# Altium schematic symbol library Inductor - Power.SchLib: 264 symbols (part 5 of 5)
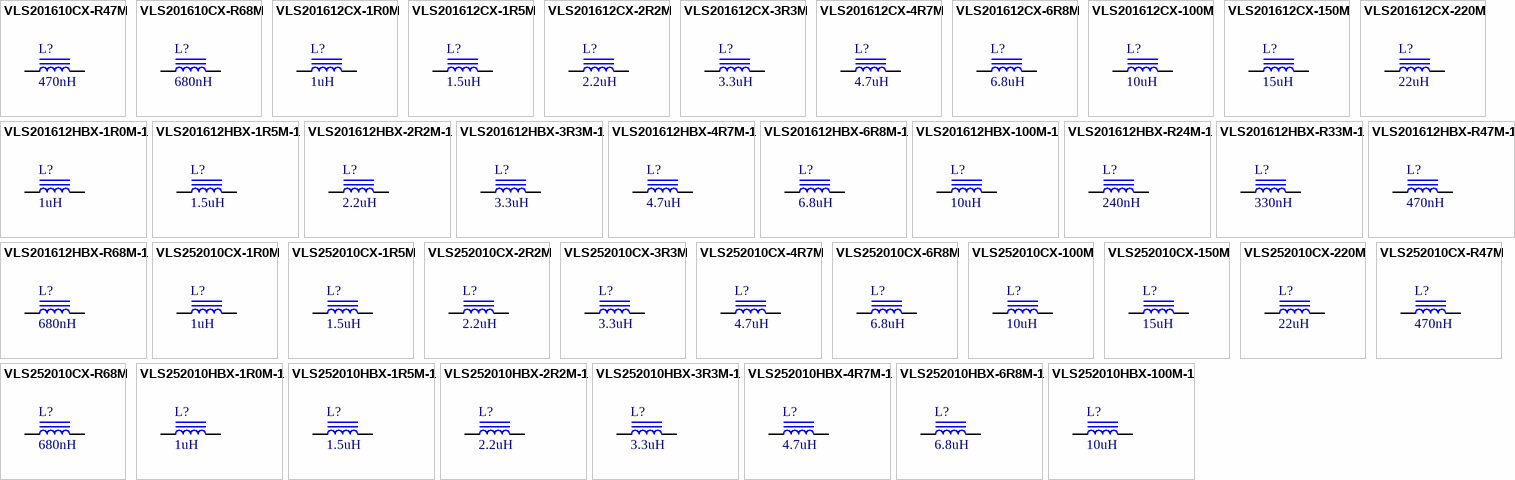
[diagram p10: symbols VLS201610CX-R47M to VLS252010HBX-100M-1]

## VLS252010HBX-4R7M-1
designator L?, comment 4.7uH
FIXED IND 4.7UH 1.4A 250 MOHM; Part Number: VLS252010HBX-4R7M-1; Manufacturer: TDK Corporation; Type: Wirewound; Tolerance: 20%; Shielding: Shielded; DC Resistance (DCR): 250 mOhm Max; Value: 4.7uH; PartId: 9544; Supplier 1: Digi-Key; Supplier Part Number 1: 445-173022-2-ND; ComponentLink1Description: Datasheet; ComponentLink1URL: https://product.tdk.com/info/en/catalog/datasheets/inductor_commercial_power_vls252010hbx-1_en.pdf; ComponentLink2Description: Digi-Key Listing; ComponentLink2URL: https://www.digikey.com/product-detail/en/VLS252010HBX-4R7M-1/445-173022-2-ND/5147060; Price: 0.2448; Device Package: 1008 (2520 Metric); Series: VLS-HBX-1; Inductance: 4.7uH; Current Rating: 1.4A; Q @ Freq: -; Frequency - Self Resonant: -; Operating Temperature: -40C ~ 105C
footprint TDK VLS252010HBX-1
pins: 1, 2

## VLS252010HBX-6R8M-1
designator L?, comment 6.8uH
FIXED IND 6.8UH 1.1A 406 MOHM; Part Number: VLS252010HBX-6R8M-1; Manufacturer: TDK Corporation; Type: Wirewound; Tolerance: 20%; Shielding: Shielded; DC Resistance (DCR): 406 mOhm Max; Value: 6.8uH; PartId: 9547; Supplier 1: Digi-Key; Supplier Part Number 1: 445-173023-2-ND; ComponentLink1Description: Datasheet; ComponentLink1URL: https://product.tdk.com/info/en/catalog/datasheets/inductor_commercial_power_vls252010hbx-1_en.pdf; ComponentLink2Description: Digi-Key Listing; ComponentLink2URL: https://www.digikey.com/product-detail/en/VLS252010HBX-6R8M-1/445-173023-2-ND/5147061; Price: 0.2448; Device Package: 1008 (2520 Metric); Series: VLS-HBX-1; Inductance: 6.8uH; Current Rating: 1.1A; Q @ Freq: -; Frequency - Self Resonant: -; Operating Temperature: -40C ~ 105C
footprint TDK VLS252010HBX-1
pins: 1, 2

## VLS252010HBX-100M-1
designator L?, comment 10uH
FIXED IND 10UH 950MA 552 MOHM; Part Number: VLS252010HBX-100M-1; Manufacturer: TDK Corporation; Type: Wirewound; Tolerance: 20%; Shielding: Shielded; DC Resistance (DCR): 552 mOhm Max; Value: 10uH; PartId: 9552; Supplier 1: Digi-Key; Supplier Part Number 1: 445-173020-1-ND; ComponentLink1Description: Datasheet; ComponentLink1URL: https://product.tdk.com/info/en/catalog/datasheets/inductor_commercial_power_vls252010hbx-1_en.pdf; ComponentLink2Description: Digi-Key Listing; ComponentLink2URL: https://www.digikey.com/product-detail/en/VLS252010HBX-100M-1/445-173020-1-ND/5250939; Price: 0.65; Device Package: 1008 (2520 Metric); Series: VLS-HBX-1; Inductance: 10uH; Current Rating: 950mA; Q @ Freq: -; Frequency - Self Resonant: -; Operating Temperature: -40C ~ 105C
footprint TDK VLS252010HBX-1
pins: 1, 2

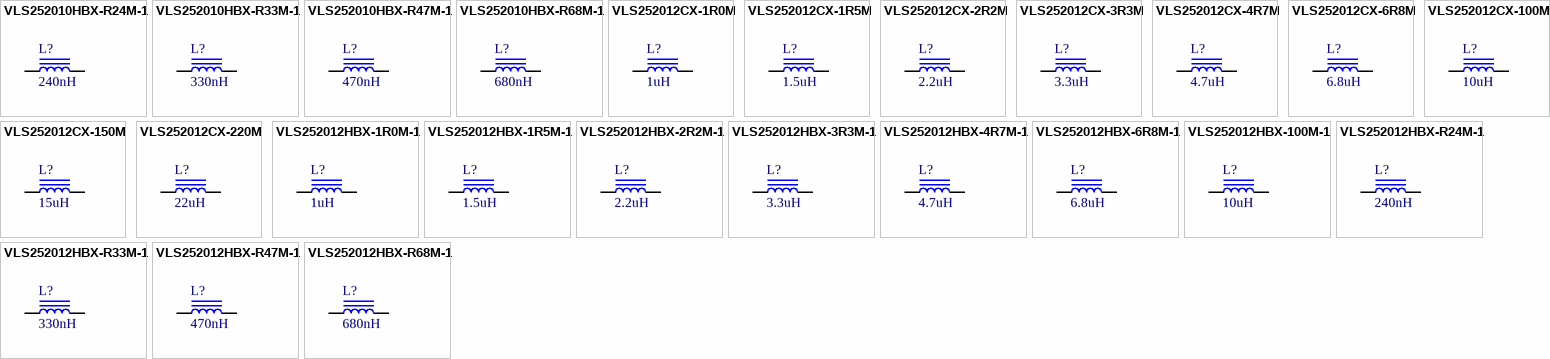
[diagram p6: symbols VLS252010HBX-R24M-1 to VLS252012HBX-R68M-1]

## VLS252010HBX-R24M-1
designator L?, comment 240nH
FIXED IND 240NH 3.91A 29 MOHM; Part Number: VLS252010HBX-R24M-1; Manufacturer: TDK Corporation; Type: Wirewound; Tolerance: 20%; Shielding: Shielded; DC Resistance (DCR): 29 mOhm Max; Value: 240nH; PartId: 9532; Supplier 1: Digi-Key; Supplier Part Number 1: 445-172400-2-ND; ComponentLink1Description: Datasheet; ComponentLink1URL: https://product.tdk.com/info/en/catalog/datasheets/inductor_commercial_power_vls252010hbx-1_en.pdf; ComponentLink2Description: Digi-Key Listing; ComponentLink2URL: https://www.digikey.com/product-detail/en/VLS252010HBX-R24M-1/445-172400-2-ND/4918067; Price: 0.2448; Device Package: 1008 (2520 Metric); Series: VLS-HBX-1; Inductance: 240nH; Current Rating: 3.91A; Q @ Freq: -; Frequency - Self Resonant: -; Operating Temperature: -40C ~ 105C
footprint TDK VLS252010HBX-1
pins: 1, 2

## VLS252010HBX-R33M-1
designator L?, comment 330nH
FIXED IND 330NH 3.74A 31 MOHM; Part Number: VLS252010HBX-R33M-1; Manufacturer: TDK Corporation; Type: Wirewound; Tolerance: 20%; Shielding: Shielded; DC Resistance (DCR): 31 mOhm Max; Value: 330nH; PartId: 9535; Supplier 1: Digi-Key; Supplier Part Number 1: 445-172401-2-ND; ComponentLink1Description: Datasheet; ComponentLink1URL: https://product.tdk.com/info/en/catalog/datasheets/inductor_commercial_power_vls252010hbx-1_en.pdf; ComponentLink2Description: Digi-Key Listing; ComponentLink2URL: https://www.digikey.com/product-detail/en/VLS252010HBX-R33M-1/445-172401-2-ND/4918068; Price: 0.2448; Device Package: 1008 (2520 Metric); Series: VLS-HBX-1; Inductance: 330nH; Current Rating: 3.74A; Q @ Freq: -; Frequency - Self Resonant: -; Operating Temperature: -40C ~ 105C
footprint TDK VLS252010HBX-1
pins: 1, 2

## VLS252010HBX-R47M-1
designator L?, comment 470nH
FIXED IND 470NH 3.32A 35 MOHM; Part Number: VLS252010HBX-R47M-1; Manufacturer: TDK Corporation; Type: Wirewound; Tolerance: 20%; Shielding: Shielded; DC Resistance (DCR): 35 mOhm Max; Value: 470nH; PartId: 9550; Supplier 1: Digi-Key; Supplier Part Number 1: 445-172402-1-ND; ComponentLink1Description: Datasheet; ComponentLink1URL: https://product.tdk.com/info/en/catalog/datasheets/inductor_commercial_power_vls252010hbx-1_en.pdf; ComponentLink2Description: Digi-Key Listing; ComponentLink2URL: https://www.digikey.com/product-detail/en/VLS252010HBX-R47M-1/445-172402-1-ND/4918086; Price: 0.65; Device Package: 1008 (2520 Metric); Series: VLS-HBX-1; Inductance: 470nH; Current Rating: 3.32A; Q @ Freq: -; Frequency - Self Resonant: -; Operating Temperature: -40C ~ 105C
footprint TDK VLS252010HBX-1
pins: 1, 2

## VLS252010HBX-R68M-1
designator L?, comment 680nH
FIXED IND 680NH 2.98A 48 MOHM; Part Number: VLS252010HBX-R68M-1; Manufacturer: TDK Corporation; Type: Wirewound; Tolerance: 20%; Shielding: Shielded; DC Resistance (DCR): 48 mOhm Max; Value: 680nH; PartId: 9538; Supplier 1: Digi-Key; Supplier Part Number 1: 445-172403-2-ND; ComponentLink1Description: Datasheet; ComponentLink1URL: https://product.tdk.com/info/en/catalog/datasheets/inductor_commercial_power_vls252010hbx-1_en.pdf; ComponentLink2Description: Digi-Key Listing; ComponentLink2URL: https://www.digikey.com/product-detail/en/VLS252010HBX-R68M-1/445-172403-2-ND/4918070; Price: 0.2448; Device Package: 1008 (2520 Metric); Series: VLS-HBX-1; Inductance: 680nH; Current Rating: 2.98A; Q @ Freq: -; Frequency - Self Resonant: -; Operating Temperature: -40C ~ 105C
footprint TDK VLS252010HBX-1
pins: 1, 2

## VLS252012CX-1R0M
designator L?, comment 1uH
FIXED IND 1UH 2.55A 62 MOHM SMD; Part Number: VLS252012CX-1R0M; Manufacturer: TDK Corporation; Type: Wirewound; Tolerance: 20%; Shielding: Shielded; DC Resistance (DCR): 62 mOhm Max; Value: 1uH; PartId: 9505; Supplier 1: Digi-Key; Supplier Part Number 1: 445-172980-2-ND; ComponentLink1Description: Datasheet; ComponentLink1URL: https://product.tdk.com/info/en/catalog/datasheets/inductor_commercial_power_vls252012cx_en.pdf; ComponentLink2Description: Digi-Key Listing; ComponentLink2URL: https://www.digikey.com/product-detail/en/VLS252012CX-1R0M/445-172980-2-ND/5169785; Price: 0.1785; Device Package: Nonstandard; Series: VLS-CX; Inductance: 1uH; Current Rating: 2.55A; Q @ Freq: -; Frequency - Self Resonant: -; Operating Temperature: -40C ~ 105C
footprint TDK VLS252012CX
pins: 1, 2

## VLS252012CX-1R5M
designator L?, comment 1.5uH
FIXED IND 1.5UH 2.3A 74 MOHM SMD; Part Number: VLS252012CX-1R5M; Manufacturer: TDK Corporation; Type: Wirewound; Tolerance: 20%; Shielding: Shielded; DC Resistance (DCR): 74 mOhm Max; Value: 1.5uH; PartId: 9508; Supplier 1: Digi-Key; Supplier Part Number 1: 445-172981-2-ND; ComponentLink1Description: Datasheet; ComponentLink1URL: https://product.tdk.com/info/en/catalog/datasheets/inductor_commercial_power_vls252012cx_en.pdf; ComponentLink2Description: Digi-Key Listing; ComponentLink2URL: https://www.digikey.com/product-detail/en/VLS252012CX-1R5M/445-172981-2-ND/5169786; Price: 0.1785; Device Package: Nonstandard; Series: VLS-CX; Inductance: 1.5uH; Current Rating: 2.3A; Q @ Freq: -; Frequency - Self Resonant: -; Operating Temperature: -40C ~ 105C
footprint TDK VLS252012CX
pins: 1, 2

## VLS252012CX-2R2M
designator L?, comment 2.2uH
FIXED IND 2.2UH 1.87A 96 MOHM; Part Number: VLS252012CX-2R2M; Manufacturer: TDK Corporation; Type: Wirewound; Tolerance: 20%; Shielding: Shielded; DC Resistance (DCR): 96 mOhm Max; Value: 2.2uH; PartId: 9463; Supplier 1: Digi-Key; Supplier Part Number 1: 445-172983-2-ND; ComponentLink1Description: Datasheet; ComponentLink1URL: https://product.tdk.com/info/en/catalog/datasheets/inductor_commercial_power_vls252012cx_en.pdf; ComponentLink2Description: Digi-Key Listing; ComponentLink2URL: https://www.digikey.com/product-detail/en/VLS252012CX-2R2M/445-172983-2-ND/5169788; Price: 0.1785; Device Package: Nonstandard; Series: VLS-CX; Inductance: 2.2uH; Current Rating: 1.87A; Q @ Freq: -; Frequency - Self Resonant: -; Operating Temperature: -40C ~ 105C
footprint TDK VLS252012CX
pins: 1, 2

## VLS252012CX-3R3M
designator L?, comment 3.3uH
FIXED IND 3.3UH 1.53A 137 MOHM; Part Number: VLS252012CX-3R3M; Manufacturer: TDK Corporation; Type: Wirewound; Tolerance: 20%; Shielding: Shielded; DC Resistance (DCR): 137 mOhm Max; Value: 3.3uH; PartId: 9517; Supplier 1: Digi-Key; Supplier Part Number 1: 445-172984-2-ND; ComponentLink1Description: Datasheet; ComponentLink1URL: https://product.tdk.com/info/en/catalog/datasheets/inductor_commercial_power_vls252012cx_en.pdf; ComponentLink2Description: Digi-Key Listing; ComponentLink2URL: https://www.digikey.com/product-detail/en/VLS252012CX-3R3M/445-172984-2-ND/5169789; Price: 0.1785; Device Package: Nonstandard; Series: VLS-CX; Inductance: 3.3uH; Current Rating: 1.53A; Q @ Freq: -; Frequency - Self Resonant: -; Operating Temperature: -40C ~ 105C
footprint TDK VLS252012CX
pins: 1, 2

## VLS252012CX-4R7M
designator L?, comment 4.7uH
FIXED IND 4.7UH 1.24A 210 MOHM; Part Number: VLS252012CX-4R7M; Manufacturer: TDK Corporation; Type: Wirewound; Tolerance: 20%; Shielding: Shielded; DC Resistance (DCR): 210 mOhm Max; Value: 4.7uH; PartId: 9469; Supplier 1: Digi-Key; Supplier Part Number 1: 445-172985-2-ND; ComponentLink1Description: Datasheet; ComponentLink1URL: https://product.tdk.com/info/en/catalog/datasheets/inductor_commercial_power_vls252012cx_en.pdf; ComponentLink2Description: Digi-Key Listing; ComponentLink2URL: https://www.digikey.com/product-detail/en/VLS252012CX-4R7M/445-172985-2-ND/5169790; Price: 0.1785; Device Package: Nonstandard; Series: VLS-CX; Inductance: 4.7uH; Current Rating: 1.24A; Q @ Freq: -; Frequency - Self Resonant: -; Operating Temperature: -40C ~ 105C
footprint TDK VLS252012CX
pins: 1, 2

## VLS252012CX-6R8M
designator L?, comment 6.8uH
FIXED IND 6.8UH 1.02A 330 MOHM; Part Number: VLS252012CX-6R8M; Manufacturer: TDK Corporation; Type: Wirewound; Tolerance: 20%; Shielding: Shielded; DC Resistance (DCR): 330 mOhm Max; Value: 6.8uH; PartId: 9514; Supplier 1: Digi-Key; Supplier Part Number 1: 445-172986-2-ND; ComponentLink1Description: Datasheet; ComponentLink1URL: https://product.tdk.com/info/en/catalog/datasheets/inductor_commercial_power_vls252012cx_en.pdf; ComponentLink2Description: Digi-Key Listing; ComponentLink2URL: https://www.digikey.com/product-detail/en/VLS252012CX-6R8M/445-172986-2-ND/5169791; Price: 0.1785; Device Package: Nonstandard; Series: VLS-CX; Inductance: 6.8uH; Current Rating: 1.02A; Q @ Freq: -; Frequency - Self Resonant: -; Operating Temperature: -40C ~ 105C
footprint TDK VLS252012CX
pins: 1, 2

## VLS252012CX-100M
designator L?, comment 10uH
FIXED IND 10UH 820MA 482 MOHM; Part Number: VLS252012CX-100M; Manufacturer: TDK Corporation; Type: Wirewound; Tolerance: 20%; Shielding: Shielded; DC Resistance (DCR): 482 mOhm Max; Value: 10uH; PartId: 9520; Supplier 1: Digi-Key; Supplier Part Number 1: 445-172978-2-ND; ComponentLink1Description: Datasheet; ComponentLink1URL: https://product.tdk.com/info/en/catalog/datasheets/inductor_commercial_power_vls252012cx_en.pdf; ComponentLink2Description: Digi-Key Listing; ComponentLink2URL: https://www.digikey.com/product-detail/en/VLS252012CX-100M/445-172978-2-ND/5169783; Price: 0.1785; Device Package: Nonstandard; Series: VLS-CX; Inductance: 10uH; Current Rating: 820mA; Q @ Freq: -; Frequency - Self Resonant: -; Operating Temperature: -40C ~ 105C
footprint TDK VLS252012CX
pins: 1, 2

## VLS252012CX-150M
designator L?, comment 15uH
FIXED IND 15UH 700MA 772 MOHM; Part Number: VLS252012CX-150M; Manufacturer: TDK Corporation; Type: Wirewound; Tolerance: 20%; Shielding: Shielded; DC Resistance (DCR): 772 mOhm Max; Value: 15uH; PartId: 9502; Supplier 1: Digi-Key; Supplier Part Number 1: 445-172979-2-ND; ComponentLink1Description: Datasheet; ComponentLink1URL: https://product.tdk.com/info/en/catalog/datasheets/inductor_commercial_power_vls252012cx_en.pdf; ComponentLink2Description: Digi-Key Listing; ComponentLink2URL: https://www.digikey.com/product-detail/en/VLS252012CX-150M/445-172979-2-ND/5169784; Price: 0.1785; Device Package: Nonstandard; Series: VLS-CX; Inductance: 15uH; Current Rating: 700mA; Q @ Freq: -; Frequency - Self Resonant: -; Operating Temperature: -40C ~ 105C
footprint TDK VLS252012CX
pins: 1, 2

## VLS252012CX-220M
designator L?, comment 22uH
FIXED IND 22UH 560MA 955 MOHM; Part Number: VLS252012CX-220M; Manufacturer: TDK Corporation; Type: Wirewound; Tolerance: 20%; Shielding: Shielded; DC Resistance (DCR): 955 mOhm Max; Value: 22uH; PartId: 9511; Supplier 1: Digi-Key; Supplier Part Number 1: 445-172982-2-ND; ComponentLink1Description: Datasheet; ComponentLink1URL: https://product.tdk.com/info/en/catalog/datasheets/inductor_commercial_power_vls252012cx_en.pdf; ComponentLink2Description: Digi-Key Listing; ComponentLink2URL: https://www.digikey.com/product-detail/en/VLS252012CX-220M/445-172982-2-ND/5169787; Price: 0.1785; Device Package: Nonstandard; Series: VLS-CX; Inductance: 22uH; Current Rating: 560mA; Q @ Freq: -; Frequency - Self Resonant: -; Operating Temperature: -40C ~ 105C
footprint TDK VLS252012CX
pins: 1, 2

## VLS252012HBX-1R0M-1
designator L?, comment 1uH
FIXED IND 1UH 3.4A 56 MOHM SMD; Part Number: VLS252012HBX-1R0M-1; Manufacturer: TDK Corporation; Type: Wirewound; Tolerance: 20%; Shielding: Shielded; DC Resistance (DCR): 56 mOhm Max; Value: 1uH; PartId: 9554; Supplier 1: Digi-Key; Supplier Part Number 1: 445-173025-2-ND; ComponentLink1Description: Datasheet; ComponentLink1URL: https://product.tdk.com/info/en/catalog/datasheets/inductor_commercial_power_vls252012hbx-1_en.pdf; ComponentLink2Description: Digi-Key Listing; ComponentLink2URL: https://www.digikey.com/product-detail/en/VLS252012HBX-1R0M-1/445-173025-2-ND/5147063; Price: 0.2815; Device Package: 1008 (2520 Metric); Series: VLS-HBX-1; Inductance: 1uH; Current Rating: 3.4A; Q @ Freq: -; Frequency - Self Resonant: -; Operating Temperature: -40C ~ 105C
footprint TDK VLS252012HBX-1
pins: 1, 2

## VLS252012HBX-1R5M-1
designator L?, comment 1.5uH
FIXED IND 1.5UH 2.75A 82 MOHM; Part Number: VLS252012HBX-1R5M-1; Manufacturer: TDK Corporation; Type: Wirewound; Tolerance: 20%; Shielding: Shielded; DC Resistance (DCR): 82 mOhm Max; Value: 1.5uH; PartId: 9560; Supplier 1: Digi-Key; Supplier Part Number 1: 445-173026-2-ND; ComponentLink1Description: Datasheet; ComponentLink1URL: https://product.tdk.com/info/en/catalog/datasheets/inductor_commercial_power_vls252012hbx-1_en.pdf; ComponentLink2Description: Digi-Key Listing; ComponentLink2URL: https://www.digikey.com/product-detail/en/VLS252012HBX-1R5M-1/445-173026-2-ND/5147064; Price: 0.2815; Device Package: 1008 (2520 Metric); Series: VLS-HBX-1; Inductance: 1.5uH; Current Rating: 2.75A; Q @ Freq: -; Frequency - Self Resonant: -; Operating Temperature: -40C ~ 105C
footprint TDK VLS252012HBX-1
pins: 1, 2

## VLS252012HBX-2R2M-1
designator L?, comment 2.2uH
FIXED IND 2.2UH 2.3A 102 MOHM; Part Number: VLS252012HBX-2R2M-1; Manufacturer: TDK Corporation; Type: Wirewound; Tolerance: 20%; Shielding: Shielded; DC Resistance (DCR): 102 mOhm Max; Value: 2.2uH; PartId: 9582; Supplier 1: Digi-Key; Supplier Part Number 1: 445-173027-1-ND; ComponentLink1Description: Datasheet; ComponentLink1URL: https://product.tdk.com/info/en/catalog/datasheets/inductor_commercial_power_vls252012hbx-1_en.pdf; ComponentLink2Description: Digi-Key Listing; ComponentLink2URL: https://www.digikey.com/product-detail/en/VLS252012HBX-2R2M-1/445-173027-1-ND/5250946; Price: 0.75; Device Package: 1008 (2520 Metric); Series: VLS-HBX-1; Inductance: 2.2uH; Current Rating: 2.3A; Q @ Freq: -; Frequency - Self Resonant: -; Operating Temperature: -40C ~ 105C
footprint TDK VLS252012HBX-1
pins: 1, 2

## VLS252012HBX-3R3M-1
designator L?, comment 3.3uH
FIXED IND 3.3UH 1.8A 168 MOHM; Part Number: VLS252012HBX-3R3M-1; Manufacturer: TDK Corporation; Type: Wirewound; Tolerance: 20%; Shielding: Shielded; DC Resistance (DCR): 168 mOhm Max; Value: 3.3uH; PartId: 9563; Supplier 1: Digi-Key; Supplier Part Number 1: 445-173028-2-ND; ComponentLink1Description: Datasheet; ComponentLink1URL: https://product.tdk.com/info/en/catalog/datasheets/inductor_commercial_power_vls252012hbx-1_en.pdf; ComponentLink2Description: Digi-Key Listing; ComponentLink2URL: https://www.digikey.com/product-detail/en/VLS252012HBX-3R3M-1/445-173028-2-ND/5147066; Price: 0.2815; Device Package: 1008 (2520 Metric); Series: VLS-HBX-1; Inductance: 3.3uH; Current Rating: 1.8A; Q @ Freq: -; Frequency - Self Resonant: -; Operating Temperature: -40C ~ 105C
footprint TDK VLS252012HBX-1
pins: 1, 2

## VLS252012HBX-4R7M-1
designator L?, comment 4.7uH
FIXED IND 4.7UH 1.55A 240 MOHM; Part Number: VLS252012HBX-4R7M-1; Manufacturer: TDK Corporation; Type: Wirewound; Tolerance: 20%; Shielding: Shielded; DC Resistance (DCR): 240 mOhm Max; Value: 4.7uH; PartId: 9557; Supplier 1: Digi-Key; Supplier Part Number 1: 445-173029-2-ND; ComponentLink1Description: Datasheet; ComponentLink1URL: https://product.tdk.com/info/en/catalog/datasheets/inductor_commercial_power_vls252012hbx-1_en.pdf; ComponentLink2Description: Digi-Key Listing; ComponentLink2URL: https://www.digikey.com/product-detail/en/VLS252012HBX-4R7M-1/445-173029-2-ND/5147067; Price: 0.2815; Device Package: 1008 (2520 Metric); Series: VLS-HBX-1; Inductance: 4.7uH; Current Rating: 1.55A; Q @ Freq: -; Frequency - Self Resonant: -; Operating Temperature: -40C ~ 105C
footprint TDK VLS252012HBX-1
pins: 1, 2

## VLS252012HBX-6R8M-1
designator L?, comment 6.8uH
FIXED IND 6.8UH 1.15A 372 MOHM; Part Number: VLS252012HBX-6R8M-1; Manufacturer: TDK Corporation; Type: Wirewound; Tolerance: 20%; Shielding: Shielded; DC Resistance (DCR): 372 mOhm Max; Value: 6.8uH; PartId: 9566; Supplier 1: Digi-Key; Supplier Part Number 1: 445-173030-2-ND; ComponentLink1Description: Datasheet; ComponentLink1URL: https://product.tdk.com/info/en/catalog/datasheets/inductor_commercial_power_vls252012hbx-1_en.pdf; ComponentLink2Description: Digi-Key Listing; ComponentLink2URL: https://www.digikey.com/product-detail/en/VLS252012HBX-6R8M-1/445-173030-2-ND/5147068; Price: 0.2815; Device Package: 1008 (2520 Metric); Series: VLS-HBX-1; Inductance: 6.8uH; Current Rating: 1.15A; Q @ Freq: -; Frequency - Self Resonant: -; Operating Temperature: -40C ~ 105C
footprint TDK VLS252012HBX-1
pins: 1, 2

## VLS252012HBX-100M-1
designator L?, comment 10uH
FIXED IND 10UH 1A 540 MOHM SMD; Part Number: VLS252012HBX-100M-1; Manufacturer: TDK Corporation; Type: Wirewound; Tolerance: 20%; Shielding: Shielded; DC Resistance (DCR): 540 mOhm Max; Value: 10uH; PartId: 9578; Supplier 1: Digi-Key; Supplier Part Number 1: 445-173024-1-ND; ComponentLink1Description: Datasheet; ComponentLink1URL: https://product.tdk.com/info/en/catalog/datasheets/inductor_commercial_power_vls252012hbx-1_en.pdf; ComponentLink2Description: Digi-Key Listing; ComponentLink2URL: https://www.digikey.com/product-detail/en/VLS252012HBX-100M-1/445-173024-1-ND/5250943; Price: 0.75; Device Package: 1008 (2520 Metric); Series: VLS-HBX-1; Inductance: 10uH; Current Rating: 1A; Q @ Freq: -; Frequency - Self Resonant: -; Operating Temperature: -40C ~ 105C
footprint TDK VLS252012HBX-1
pins: 1, 2

## VLS252012HBX-R24M-1
designator L?, comment 240nH
FIXED IND 240NH 6.4A 29 MOHM SMD; Part Number: VLS252012HBX-R24M-1; Manufacturer: TDK Corporation; Type: Wirewound; Tolerance: 20%; Shielding: Shielded; DC Resistance (DCR): 29 mOhm Max; Value: 240nH; PartId: 9569; Supplier 1: Digi-Key; Supplier Part Number 1: 445-173031-2-ND; ComponentLink1Description: Datasheet; ComponentLink1URL: https://product.tdk.com/info/en/catalog/datasheets/inductor_commercial_power_vls252012hbx-1_en.pdf; ComponentLink2Description: Digi-Key Listing; ComponentLink2URL: https://www.digikey.com/product-detail/en/VLS252012HBX-R24M-1/445-173031-2-ND/5147069; Price: 0.2815; Device Package: 1008 (2520 Metric); Series: VLS-HBX-1; Inductance: 240nH; Current Rating: 6.4A; Q @ Freq: -; Frequency - Self Resonant: -; Operating Temperature: -40C ~ 105C
footprint TDK VLS252012HBX-1
pins: 1, 2

## VLS252012HBX-R33M-1
designator L?, comment 330nH
FIXED IND 330NH 5.25A 31 MOHM; Part Number: VLS252012HBX-R33M-1; Manufacturer: TDK Corporation; Type: Wirewound; Tolerance: 20%; Shielding: Shielded; DC Resistance (DCR): 31 mOhm Max; Value: 330nH; PartId: 9572; Supplier 1: Digi-Key; Supplier Part Number 1: 445-173032-2-ND; ComponentLink1Description: Datasheet; ComponentLink1URL: https://product.tdk.com/info/en/catalog/datasheets/inductor_commercial_power_vls252012hbx-1_en.pdf; ComponentLink2Description: Digi-Key Listing; ComponentLink2URL: https://www.digikey.com/product-detail/en/VLS252012HBX-R33M-1/445-173032-2-ND/5147070; Price: 0.2815; Device Package: 1008 (2520 Metric); Series: VLS-HBX-1; Inductance: 330nH; Current Rating: 5.25A; Q @ Freq: -; Frequency - Self Resonant: -; Operating Temperature: -40C ~ 105C
footprint TDK VLS252012HBX-1
pins: 1, 2

## VLS252012HBX-R47M-1
designator L?, comment 470nH
FIXED IND 470NH 4.5A 35 MOHM SMD; Part Number: VLS252012HBX-R47M-1; Manufacturer: TDK Corporation; Type: Wirewound; Tolerance: 20%; Shielding: Shielded; DC Resistance (DCR): 35 mOhm Max; Value: 470nH; PartId: 9580; Supplier 1: Digi-Key; Supplier Part Number 1: 445-173033-1-ND; ComponentLink1Description: Datasheet; ComponentLink1URL: https://product.tdk.com/info/en/catalog/datasheets/inductor_commercial_power_vls252012hbx-1_en.pdf; ComponentLink2Description: Digi-Key Listing; ComponentLink2URL: https://www.digikey.com/product-detail/en/VLS252012HBX-R47M-1/445-173033-1-ND/5250952; Price: 0.75; Device Package: 1008 (2520 Metric); Series: VLS-HBX-1; Inductance: 470nH; Current Rating: 4.5A; Q @ Freq: -; Frequency - Self Resonant: -; Operating Temperature: -40C ~ 105C
footprint TDK VLS252012HBX-1
pins: 1, 2

## VLS252012HBX-R68M-1
designator L?, comment 680nH
FIXED IND 680NH 3.7A 46 MOHM SMD; Part Number: VLS252012HBX-R68M-1; Manufacturer: TDK Corporation; Type: Wirewound; Tolerance: 20%; Shielding: Shielded; DC Resistance (DCR): 46 mOhm Max; Value: 680nH; PartId: 9575; Supplier 1: Digi-Key; Supplier Part Number 1: 445-173034-2-ND; ComponentLink1Description: Datasheet; ComponentLink1URL: https://product.tdk.com/info/en/catalog/datasheets/inductor_commercial_power_vls252012hbx-1_en.pdf; ComponentLink2Description: Digi-Key Listing; ComponentLink2URL: https://www.digikey.com/product-detail/en/VLS252012HBX-R68M-1/445-173034-2-ND/5147072; Price: 0.2815; Device Package: 1008 (2520 Metric); Series: VLS-HBX-1; Inductance: 680nH; Current Rating: 3.7A; Q @ Freq: -; Frequency - Self Resonant: -; Operating Temperature: -40C ~ 105C
footprint TDK VLS252012HBX-1
pins: 1, 2